# Altium footprint library SOT23-3P95_230X110L30X43N.PcbLib: 1 footprints
Each footprint in its own frame and in the unit in brackets; x right, y up, seen from the top. Pads: shape width x height; smd on the part's side, far side on the other; paste and mask are expansions set on the pad; w line width, h text height; cw(c..) or ccw(c..) is an arc to the next point about the centre after c.
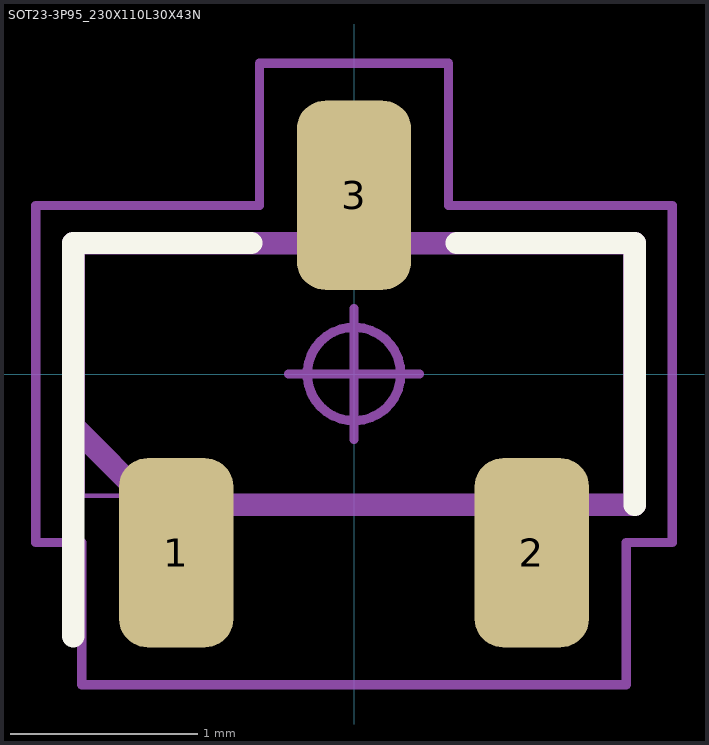
[diagram p0: the footprint, top view; thin cyan lines are the x and y axes]

## SOT23-3P95_230X110L30X43N [mm] "Small Outline Transistor (SOT23), 0.95 mm pitch; 3 pin, 2.90 mm L X 1.30 mm W X 1.10 mm H body"
height 1.1
pads (3):
  rrect49% 0.61x1.01 smd: 1(-0.95,-0.955) 2(0.95,-0.955) 3(0,0.955)
Top Overlay:
  lines w0.12: -1.5,-1.4 -1.5,-0.7 -1.5,0.7 -0.55,0.7 ; 0.55,0.7 1.5,0.7 1.5,-0.7
Mechanical 3:
  lines w0.12: -1.5,-0.278 -1.5,0.7 1.5,0.7 1.5,-0.7 -1.078,-0.7 -1.5,-0.278
Mechanical 5:
  lines w0.025: -1.45,-0.65 1.45,-0.65 1.45,0.65 -1.45,0.65 -1.45,-0.65 ; -1.165,-1.15 -1.165,-0.85 -0.735,-0.85 -0.735,-1.15 -1.165,-1.15 ; -0.215,0.85 -0.215,1.15 0.215,1.15 0.215,0.85 -0.215,0.85 ; 0.735,-1.15 0.735,-0.85 1.165,-0.85 1.165,-1.15 0.735,-1.15
Mechanical 7:
  circle w0.05: c0,0 r0.25
  lines w0.05: -0.35,0 0.35,0 ; 0,-0.35 0,0.35 ; -1.7,-0.9 -1.455,-0.9 -1.455,-1.66 1.455,-1.66 1.455,-0.9 1.7,-0.9 1.7,0.9 0.505,0.9 0.505,1.66 -0.505,1.66 -0.505,0.9 -1.7,0.9 -1.7,-0.9
Mechanical 9:
  text "'.Designator'" at -5.588,-0.381 h1
3D body "SOT23-3P95_230X110L30X43.STEP": height 1.1, standoff 0, extent -1.45,-1.15 1.45,1.15
3D body: height 22.61, standoff -7.34, extent -1.7,-1.66 1.7,1.66